# Altium footprint library Connectors.PcbLib: 73 footprints (part 4 of 5)
Each footprint in its own frame and in the unit in brackets; x right, y up, seen from the top. Pads: shape width x height; smd on the part's side, far side on the other; paste and mask are expansions set on the pad; w line width, h text height; cw(c..) or ccw(c..) is an arc to the next point about the centre after c.
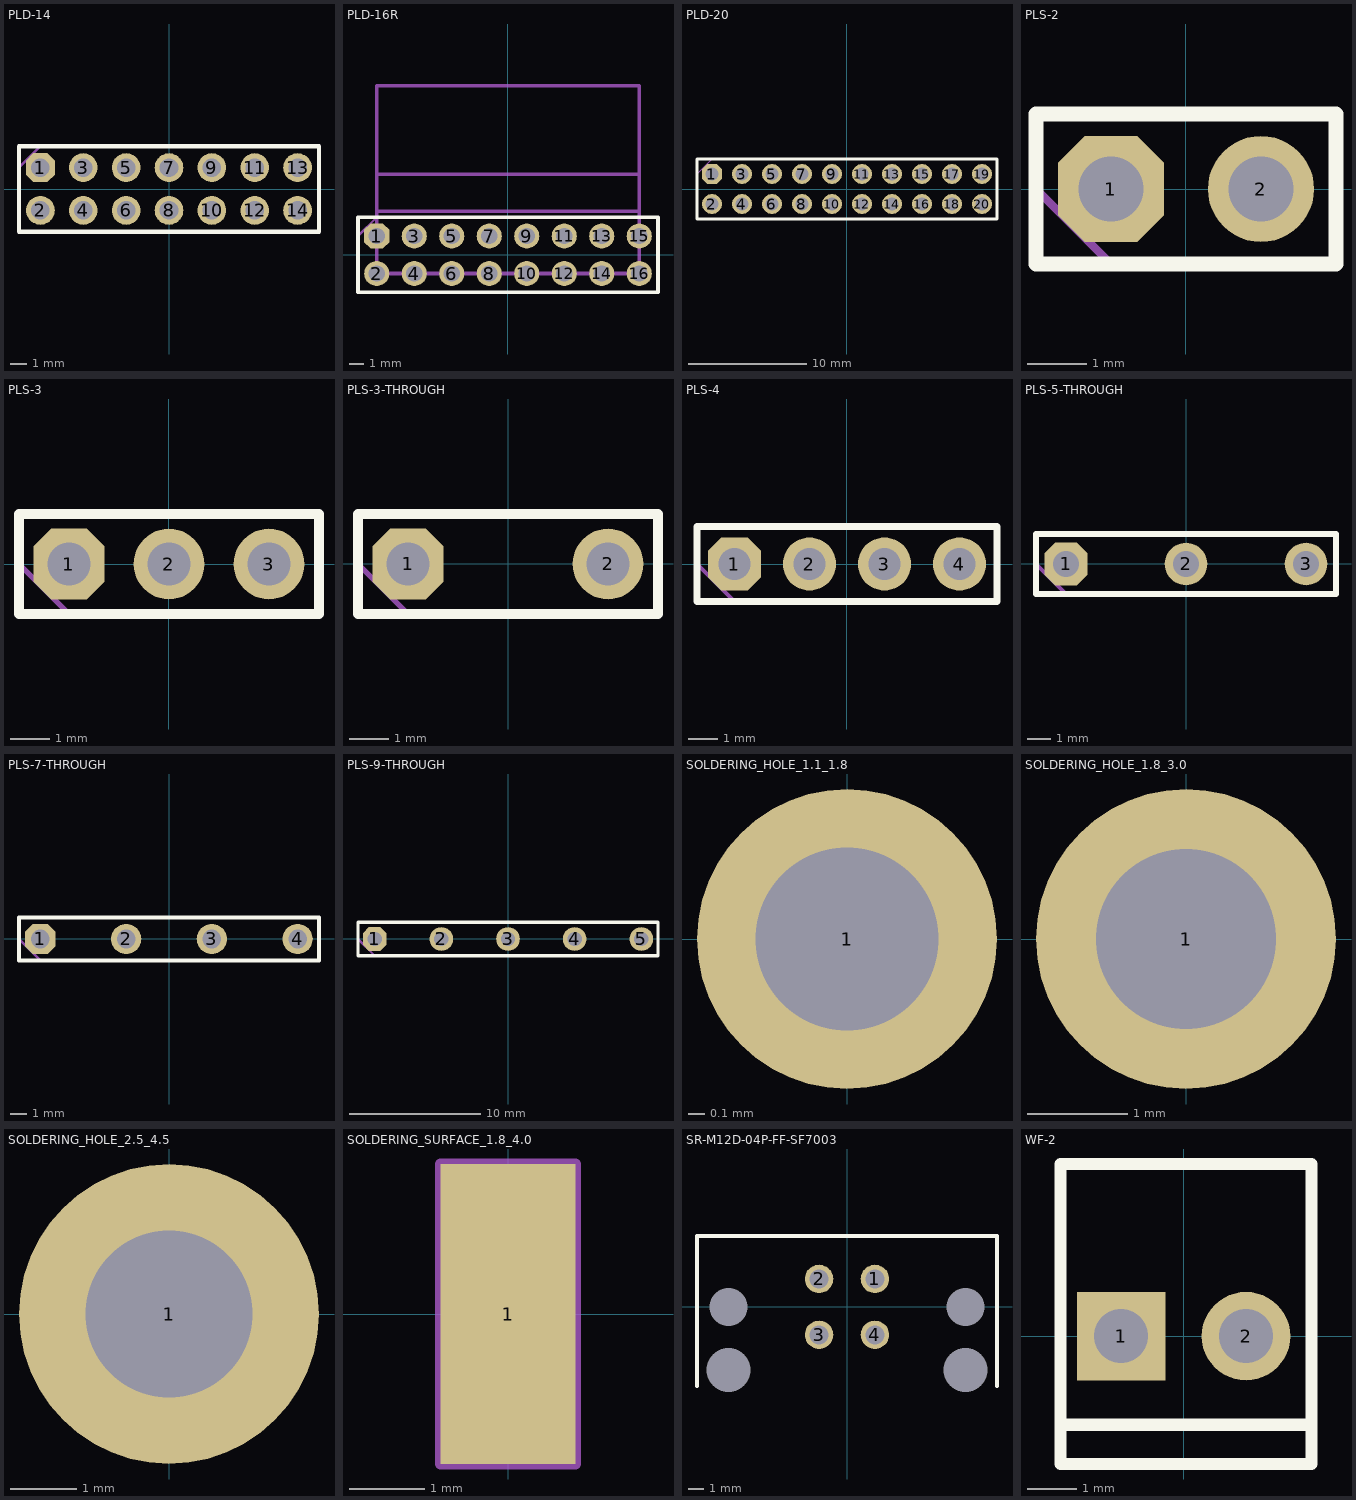
[diagram p3: the footprints below, top view; thin cyan lines are the x and y axes]

## PLD-14 [mm]
pads (14):
  oct 1.7x1.7 hole 1.1: 1(-7.62,1.27)
  round 1.7 hole 1.1: 2(-7.62,-1.27) 3(-5.08,1.27) 4(-5.08,-1.27) 5(-2.54,1.27) 6(-2.54,-1.27) 7(0,1.27) 8(0,-1.27) 9(2.54,1.27) 10(2.54,-1.27) 11(5.08,1.27) 12(5.08,-1.27) 13(7.62,1.27) 14(7.62,-1.27)
Top Overlay:
  lines w0.25: -8.89,-2.54 -8.89,2.54 8.89,2.54 8.89,-2.54 -8.89,-2.54
Top Assembly:
  lines w0.15: -8.89,1.27 -7.62,2.54 ; -8.89,-2.54 -8.89,2.54 8.89,2.54 8.89,-2.54 -8.89,-2.54
3D body "PLD-14.step": height 8.6, standoff -3, extent -8.89,-2.54 8.89,2.54

## PLD-16R [mm]
pads (16):
  oct 1.7x1.7 hole 1.1: 1(-8.89,1.27)
  round 1.7 hole 1.1: 2(-8.89,-1.27) 3(-6.35,1.27) 4(-6.35,-1.27) 5(-3.81,1.27) 6(-3.81,-1.27) 7(-1.27,1.27) 8(-1.27,-1.27) 9(1.27,1.27) 10(1.27,-1.27) 11(3.81,1.27) 12(3.81,-1.27) 13(6.35,1.27) 14(6.35,-1.27) 15(8.89,1.27) 16(8.89,-1.27)
Top Overlay:
  lines w0.25: -10.16,-2.54 10.16,-2.54 10.16,2.54 -10.16,2.54 -10.16,-2.54
Mechanical 1:
  lines w0.25: -8.89,2.95 8.89,2.95 ; -8.89,5.45 8.89,5.45 ; -8.89,-1.27 8.89,-1.27 8.89,11.45 -8.89,11.45 -8.89,-1.27
Top Assembly:
  lines w0.15: -10.16,1.27 -8.89,2.54 ; -10.16,-2.54 10.16,-2.54 10.16,2.54 -10.16,2.54 -10.16,-2.54
3D body "2x8 Male Pin Header Angle.STEP": height 5.05, standoff -2.95, extent -10.16,-1.608 10.165,13.292

## PLD-20 [mm]
pads (20):
  oct 1.7x1.7 hole 1.1: 1(-11.43,1.27)
  round 1.7 hole 1.1: 2(-11.43,-1.27) 3(-8.89,1.27) 4(-8.89,-1.27) 5(-6.35,1.27) 6(-6.35,-1.27) 7(-3.81,1.27) 8(-3.81,-1.27) 9(-1.27,1.27) 10(-1.27,-1.27) 11(1.27,1.27) 12(1.27,-1.27) 13(3.81,1.27) 14(3.81,-1.27) 15(6.35,1.27) 16(6.35,-1.27) 17(8.89,1.27) 18(8.89,-1.27) 19(11.43,1.27) 20(11.43,-1.27)
Top Overlay:
  lines w0.25: -12.7,-2.54 12.7,-2.54 12.7,2.54 -12.7,2.54 -12.7,-2.54
Top Assembly:
  lines w0.15: -12.7,1.27 -11.43,2.54 ; -12.7,-2.54 12.7,-2.54 12.7,2.54 -12.7,2.54 -12.7,-2.54
3D body "PLD-20.step": height 8.6, standoff -3, extent -12.7,-2.54 12.7,2.54

## PLS-2 [mm]
pads (2):
  oct 1.8x1.8 hole 1.1: 1(-1.27,0)
  round 1.8 hole 1.1: 2(1.27,0)
Top Overlay:
  lines w0.25: -2.54,-1.27 2.54,-1.27 2.54,1.27 -2.54,1.27 -2.54,-1.27
Top Assembly:
  lines w0.15: -2.54,0 -1.27,-1.27 ; -2.54,-1.27 2.54,-1.27 2.54,1.27 -2.54,1.27 -2.54,-1.27
3D body "PLS-2.step": height 8.6, standoff -3, extent -2.54,-1.27 2.54,1.27

## PLS-3 [mm]
pads (3):
  oct 1.8x1.8 hole 1.1: 1(-2.54,0)
  round 1.8 hole 1.1: 2(0,0) 3(2.54,0)
Top Overlay:
  lines w0.25: -3.81,-1.27 3.81,-1.27 3.81,1.27 -3.81,1.27 -3.81,-1.27
Top Assembly:
  lines w0.15: -3.81,0 -2.54,-1.27 ; -3.81,-1.27 3.81,-1.27 3.81,1.27 -3.81,1.27 -3.81,-1.27
3D body "PLS-3.step": height 8.7, standoff -2.9, extent -3.81,-1.27 3.81,1.27

## PLS-3-THROUGH [mm]
pads (2):
  oct 1.8x1.8 hole 1.1: 1(-2.54,0)
  round 1.8 hole 1.1: 2(2.54,0)
Top Overlay:
  lines w0.25: -3.81,-1.27 3.81,-1.27 3.81,1.27 -3.81,1.27 -3.81,-1.27
Top Assembly:
  lines w0.15: -3.81,0 -2.54,-1.27 ; -3.81,-1.27 -3.81,-1.27 ; -3.81,-1.27 3.81,-1.27 3.81,1.27 -3.81,1.27 -3.81,-1.27
3D body "PLS-1.step": height 8.6, standoff -3, extent -3.81,-1.27 -1.27,1.27
3D body "PLS-1.step": height 8.6, standoff -3, extent 1.27,-1.27 3.81,1.27

## PLS-4 [mm]
pads (4):
  oct 1.8x1.8 hole 1.1: 1(-3.81,0)
  round 1.8 hole 1.1: 2(-1.27,0) 3(1.27,0) 4(3.81,0)
Top Overlay:
  lines w0.25: -5.08,-1.27 5.08,-1.27 5.08,1.27 -5.08,1.27 -5.08,-1.27
Top Assembly:
  lines w0.15: -5.08,0 -3.81,-1.27 ; -5.08,-1.27 5.08,-1.27 5.08,1.27 -5.08,1.27 -5.08,-1.27
3D body "PLS-4.step": height 8.7, standoff -2.9, extent -5.08,-1.27 5.08,1.27

## PLS-5-THROUGH [mm]
pads (3):
  oct 1.8x1.8 hole 1.1: 1(-5.08,0)
  round 1.8 hole 1.1: 2(0,0) 3(5.08,0)
Top Overlay:
  lines w0.25: -6.35,-1.27 -6.35,1.27 6.35,1.27 6.35,-1.27 -6.35,-1.27
Top Assembly:
  lines w0.15: -6.35,0 -5.08,-1.27 ; -6.35,-1.27 3.81,-1.27 6.35,-1.27 6.35,1.27 3.81,1.27 -6.35,1.27 -6.35,-1.27
3D body "PLS-1.step": height 8.6, standoff -3, extent 3.81,-1.27 6.35,1.27
3D body "PLS-1.step": height 8.6, standoff -3, extent -1.27,-1.27 1.27,1.27
3D body "PLS-1.step": height 8.6, standoff -3, extent -6.35,-1.27 -3.81,1.27

## PLS-7-THROUGH [mm]
pads (4):
  oct 1.8x1.8 hole 1.1: 1(-7.62,0)
  round 1.8 hole 1.1: 2(-2.54,0) 3(2.54,0) 4(7.62,0)
Top Overlay:
  lines w0.25: -8.89,-1.27 8.89,-1.27 8.89,1.27 -8.89,1.27 -8.89,-1.27
Top Assembly:
  lines w0.15: -8.89,0 -7.62,-1.27 ; -8.89,-1.27 -8.89,1.27 1.27,1.27 8.89,1.27 8.89,-1.27 1.27,-1.27 -8.89,-1.27
3D body "PLS-1.step": height 8.6, standoff -3, extent -8.89,-1.27 -6.35,1.27
3D body "PLS-1.step": height 8.6, standoff -3, extent -3.81,-1.27 -1.27,1.27
3D body "PLS-1.step": height 8.6, standoff -3, extent 1.27,-1.27 3.81,1.27
3D body "PLS-1.step": height 8.6, standoff -3, extent 6.35,-1.27 8.89,1.27

## PLS-9-THROUGH [mm]
pads (5):
  oct 1.8x1.8 hole 1.1: 1(-10.16,0)
  round 1.8 hole 1.1: 2(-5.08,0) 3(0,0) 4(5.08,0) 5(10.16,0)
Top Overlay:
  lines w0.25: -11.43,-1.27 11.43,-1.27 11.43,1.27 -11.43,1.27 -11.43,-1.27
Top Assembly:
  lines w0.15: -11.43,0 -10.16,-1.27 ; -11.43,-1.27 -11.43,1.27 -1.27,1.27 11.43,1.27 11.43,-1.27 -1.27,-1.27 -11.43,-1.27
3D body "PLS-1.step": height 8.6, standoff -3, extent -11.43,-1.27 -8.89,1.27
3D body "PLS-1.step": height 8.6, standoff -3, extent -6.35,-1.27 -3.81,1.27
3D body "PLS-1.step": height 8.6, standoff -3, extent -1.27,-1.27 1.27,1.27
3D body "PLS-1.step": height 8.6, standoff -3, extent 3.81,-1.27 6.35,1.27
3D body "PLS-1.step": height 8.6, standoff -3, extent 8.89,-1.27 11.43,1.27

## SOLDERING_HOLE_1.1_1.8 [mm]
pads (1):
  round 1.8 hole 1.1: 1(0,0)
Top Assembly:
  circle w0.15: c0,0 r0.6

## SOLDERING_HOLE_1.8_3.0 [mm]
pads (1):
  round 3 hole 1.8: 1(0,0)
Top Assembly:
  circle w0.15: c0,0 r1

## SOLDERING_HOLE_2.5_4.5 [mm]
pads (1):
  round 4.5 hole 2.5: 1(0,0)
Top Assembly:
  circle w0.15: c0,0 r1.8

## SOLDERING_SURFACE_1.8_4.0 [mm]
pads (1):
  rect 1.8x4 smd: 1(0,0)
Top Assembly:
  lines w0.15: -0.9,-2 0.9,-2 0.9,2 -0.9,2 -0.9,-2

## SR-M12D-04P-FF-SF7003 [mm]
pads (8):
  round 1.8 hole 1.2: 1(1.77,1.77) 2(-1.77,1.77) 3(-1.77,-1.77) 4(1.77,-1.77)
  round 0 hole 2.8 unplated: -1(-7.5,-4) -1(7.5,-4)
  round 0 hole 2.4 unplated: -1(-7.5,0) -1(7.5,0)
Top Overlay:
  lines w0.25: -9.5,-5 -9.5,4.5 9.5,4.5 9.5,-5
3D body "SR-M12D-04P-FF-SF7003-00A(H).stp": height 16.01, standoff -3.49, extent -9.747,-23 9.753,4.848

## WF-2 [mm]
pads (2):
  rect 1.8x1.8 hole 1.1: 1(-1.27,0)
  round 1.8 hole 1.1: 2(1.27,0)
Top Overlay:
  lines w0.25: -2.5,-1.8 2.6,-1.8 ; -2.5,-2.6 -2.5,3.5 2.6,3.5 2.6,-2.6 -2.5,-2.6
Top Assembly:
  lines w0.15: -2.5,-1.778 2.6,-1.778 ; -2.5,-2.6 2.6,-2.6 2.6,3.5 -2.5,3.5 -2.5,-2.6
3D body "DS1070-2 (WF-2 CONNFLY).stp": height 11.5, standoff -3.2, extent -2.54,-2.4 2.54,3.5